# EAGLE library part USB_CONN_C (library connectors)
Conn USB Type C RCP 24 POS 0.5mm Solder RA SMD/Thru-Hole 24 Terminal 1Port T/R Check prices <https://pricing.snapeda.com/parts/10137062-00021LF/Amphenol%20ICC%20%28FCI%29/view-part?ref=eda>
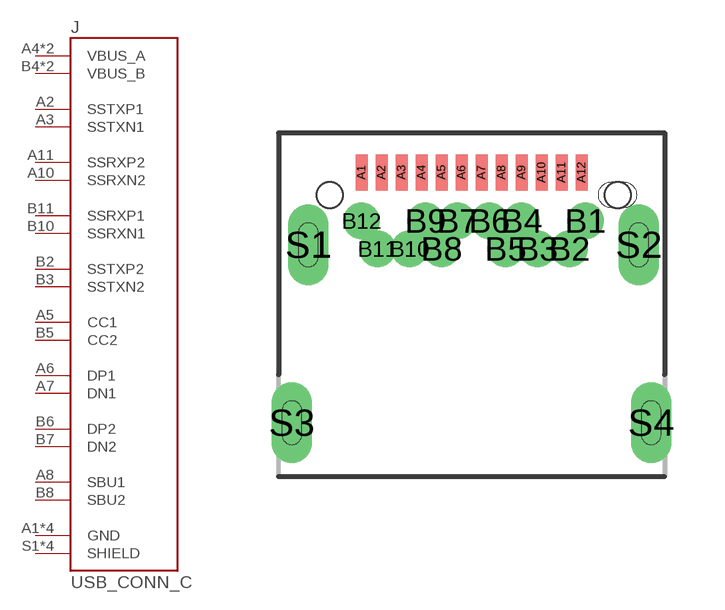
[diagram p20: symbol with the pads of CONN_USB_C; footprint CONN_USB_C]

Designator prefix J

## USB_CONN_C (AVAILABILITY: Good; DESCRIPTION: USB-C (USB TYPE-C) USB 3.2 Gen 2 (USB 3.1 Gen 2, Superspeed + (USB 3.1)) Receptacle Connector 24 Position Surface Mount, Right Angle; Through Hole; MF: Amphenol ICC (FCI); MP: 10137062-00021LF; PACKAGE: None; PRICE: None; PURCHASE-URL: https://pricing.snapeda.com/search/part/10137062-00021LF/?ref=eda)  [CONN_USB_C]
A1  GND
A2  SSTXP1
A3  SSTXN1
A4  VBUS_A
A5  CC1
A6  DP1
A7  DN1
A8  SBU1
A9  VBUS_A
A10  SSRXN2
A11  SSRXP2
A12  GND
B1  GND
B2  SSTXP2
B3  SSTXN2
B4  VBUS_B
B5  CC2
B6  DP2
B7  DN2
B8  SBU2
B9  VBUS_B
B10  SSRXN1
B11  SSRXP1
B12  GND
S1  SHIELD
S2  SHIELD
S3  SHIELD
S4  SHIELD

## Footprint CONN_USB_C (pad centres in mm)
smd 0.3 x 0.9: A1 -2.75,0.56; A2 -2.25,0.56; A3 -1.75,0.56; A4 -1.25,0.56; A5 -0.75,0.56; A6 -0.25,0.56; A7 0.25,0.56; A8 0.75,0.56; A9 1.25,0.56; A10 1.75,0.56; A11 2.25,0.56; A12 2.75,0.56
drill 0.4 pad 0.6: B1 2.85,-0.65; B2 2.45,-1.35; B3 1.65,-1.35; B4 1.25,-0.65; B5 0.85,-1.35; B6 0.45,-0.65; B7 -0.35,-0.65; B8 -0.75,-1.35; B9 -1.15,-0.65; B10 -1.55,-1.35; B11 -2.35,-1.35; B12 -2.75,-0.65
drill 0.5 pad 0.8 long: S1 -4.08,-1.25; S2 4.18,-1.25
drill 0.5 pad 1 long: S3 -4.49,-5.7; S4 4.49,-5.7
hole 0.65 at -3.55,0
hole 0.65 at 3.65,0